# EAGLE library part AD8363ACPZ-R7 (library Analog Devices)
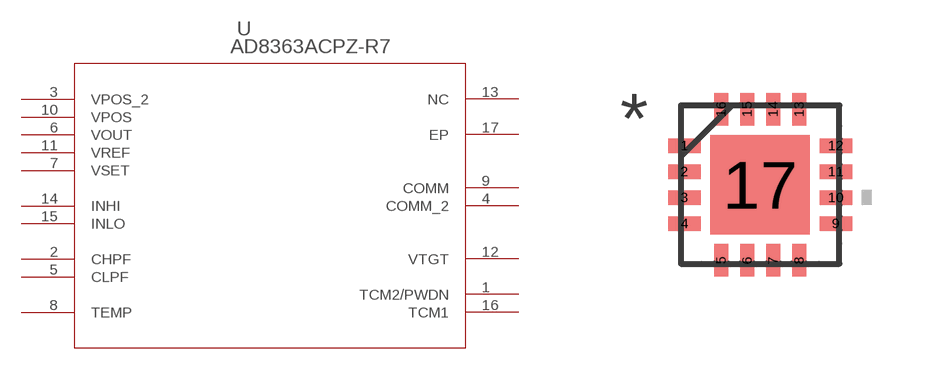
[diagram p6: symbol with the pads of CP_16_10; footprint CP_16_10]

Designator prefix U

## AD8363ACPZ-R7  [CP_16_10]
1  TCM2/PWDN  pas
2  CHPF  pas
3  VPOS_2  pas
4  COMM_2  pas
5  CLPF  pas
6  VOUT  pas
7  VSET  pas
8  TEMP  pas
9  COMM  pas
10  VPOS  pas
11  VREF  pas
12  VTGT  pas
13  NC  pas
14  INHI  pas
15  INLO  pas
16  TCM1  pas
17  EP  pas

## Footprint CP_16_10 (pad centres in mm)
smd 0.813 x 0.356: 1 -1.892,0.975; 2 -1.892,0.325; 3 -1.892,-0.325; 4 -1.892,-0.975; 9 1.892,-0.975; 10 1.892,-0.325; 11 1.892,0.325; 12 1.892,0.975
smd 0.356 x 0.813: 5 -0.975,-1.892; 6 -0.325,-1.892; 7 0.325,-1.892; 8 0.975,-1.892; 13 0.975,1.892; 14 0.325,1.892; 15 -0.325,1.892; 16 -0.975,1.892
smd 2.489 x 2.489: 17 0,0